# Altium footprint library Chip Resistor Array - Panasonic.PcbLib: 9 footprints
Each footprint in its own frame and in the unit in brackets; x right, y up, seen from the top. Pads: shape width x height; smd on the part's side, far side on the other; paste and mask are expansions set on the pad; w line width, h text height; cw(c..) or ccw(c..) is an arc to the next point about the centre after c.
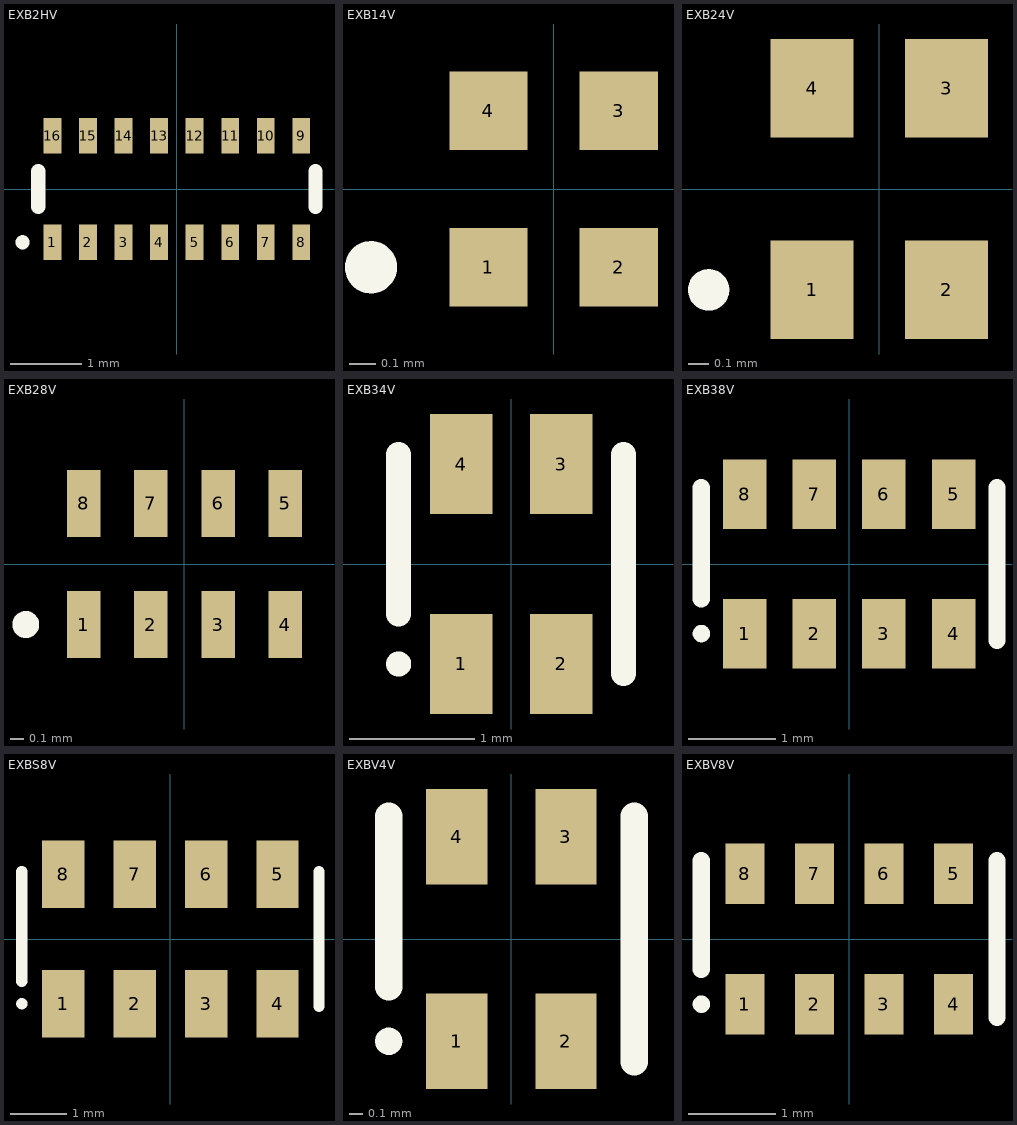
[diagram p0: the footprints below, top view; thin cyan lines are the x and y axes]

## EXB2HV [mm] "Chip Resistor Array, (0402x8); SM; 16 Leads; Body 3.90 x 1.70 mm (LxW max)"
height 0.55
pads (16):
  rect 0.25x0.5 smd: 1(-1.75,-0.75) 2(-1.25,-0.75) 3(-0.75,-0.75) 4(-0.25,-0.75) 5(0.25,-0.75) 6(0.75,-0.75) 7(1.25,-0.75) 8(1.75,-0.75) 9(1.75,0.75) 10(1.25,0.75) 11(0.75,0.75) 12(0.25,0.75) 13(-0.25,0.75) 14(-0.75,0.75) 15(-1.25,0.75) 16(-1.75,0.75)
Top Overlay:
  circle w0.1: c-2.17,-0.75 r0.05
  lines w0.2: -1.95,-0.25 -1.95,0.25 ; 1.95,-0.25 1.95,0.25

## EXB14V [mm] "Chip Resistor Array, (0201x2); SM; 4 Leads; Body 0.90 x 0.70 mm (LxW max)"
height 0.45
pads (4):
  rect 0.3x0.3 smd: 1(-0.25,-0.3) 2(0.25,-0.3) 3(0.25,0.3) 4(-0.25,0.3)
Top Overlay:
  circle w0.1: c-0.7,-0.3 r0.05

## EXB24V [mm] "Chip Resistor Array, (0402x2); SM; 4 Leads; Body 1.05 x 1.05 mm (LxW max)"
height 0.4
pads (4):
  rect 0.4x0.475 smd: 1(-0.325,-0.487) 2(0.325,-0.487) 3(0.325,0.487) 4(-0.325,0.487)
Top Overlay:
  circle w0.1: c-0.825,-0.487 r0.05

## EXB28V [mm] "Chip Resistor Array, (0402x4); SM; 8 Leads; Body 2.10 x 1.10 mm (LxW max)"
height 0.45
pads (8):
  rect 0.25x0.5 smd: 1(-0.75,-0.45) 2(-0.25,-0.45) 3(0.25,-0.45) 4(0.75,-0.45) 5(0.75,0.45) 6(0.25,0.45) 7(-0.25,0.45) 8(-0.75,0.45)
Top Overlay:
  circle w0.1: c-1.18,-0.45 r0.05

## EXB34V [mm] "Chip Resistor Array, (0603x2); SM; 4 Leads; Body 1.80 x 1.75 mm (LxW max)"
height 0.6
pads (4):
  rect 0.5x0.8 smd: 1(-0.4,-0.8) 2(0.4,-0.8) 3(0.4,0.8) 4(-0.4,0.8)
Top Overlay:
  circle w0.1: c-0.9,-0.8 r0.05
  lines w0.2: -0.9,-0.4 -0.9,0.875 ; 0.9,-0.875 0.9,0.875

## EXB38V [mm] "Chip Resistor Array, (0603x4); SM; 8 Leads; Body 3.40 x 1.75 mm (LxW max)"
height 0.6
pads (8):
  rect 0.5x0.8 smd: 1(-1.2,-0.8) 2(-0.4,-0.8) 3(0.4,-0.8) 4(1.2,-0.8) 5(1.2,0.8) 6(0.4,0.8) 7(-0.4,0.8) 8(-1.2,0.8)
Top Overlay:
  circle w0.1: c-1.7,-0.8 r0.05
  lines w0.2: -1.7,-0.4 -1.7,0.875 ; 1.7,-0.875 1.7,0.875

## EXBS8V [mm] "Chip Resistor Array, (0805x4); SM; 8 Leads; Body 5.28 x 2.40 mm (LxW max)"
height 0.9
pads (8):
  rect 0.75x1.2 smd: 1(-1.905,-1.15) 2(-0.635,-1.15) 3(0.635,-1.15) 4(1.905,-1.15) 5(1.905,1.15) 6(0.635,1.15) 7(-0.635,1.15) 8(-1.905,1.15)
Top Overlay:
  circle w0.1: c-2.64,-1.15 r0.05
  lines w0.2: -2.64,-0.75 -2.64,1.2 ; 2.64,-1.2 2.64,1.2

## EXBV4V [mm] "Chip Resistor Array, (0603x2); SM; 4 Leads; Body 1.80 x 1.80 mm (LxW max)"
height 0.7
pads (4):
  rect 0.45x0.7 smd: 1(-0.4,-0.75) 2(0.4,-0.75) 3(0.4,0.75) 4(-0.4,0.75)
Top Overlay:
  circle w0.1: c-0.9,-0.75 r0.05
  lines w0.2: -0.9,-0.35 -0.9,0.9 ; 0.9,-0.9 0.9,0.9

## EXBV8V [mm] "Chip Resistor Array, (0603x4); SM; 8 Leads; Body 3.40 x 1.80 mm (LxW max)"
height 0.7
pads (8):
  rect 0.45x0.7 smd: 1(-1.2,-0.75) 2(-0.4,-0.75) 3(0.4,-0.75) 4(1.2,-0.75) 5(1.2,0.75) 6(0.4,0.75) 7(-0.4,0.75) 8(-1.2,0.75)
Top Overlay:
  circle w0.1: c-1.7,-0.75 r0.05
  lines w0.2: -1.7,-0.35 -1.7,0.9 ; 1.7,-0.9 1.7,0.9